# Altium schematic symbol library BM06B-GHS-TBTLFSNN.SchLib: 1 symbol
Pins are listed as number, name and electrical type; pins without a type are passive.

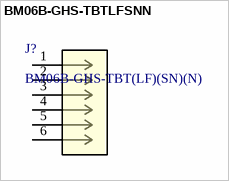
[diagram p0: symbol BM06B-GHS-TBTLFSNN]

## BM06B-GHS-TBTLFSNN
designator J?, comment BM06B-GHS-TBT(LF)(SN)(N)
Description; Manufacturer_Name: JST; Copyright: Copyright (C) 2026 Ultra Librarian. All rights reserved.; Manufacturer_Part_Number: BM06B-GHS-TBT(LF)(SN)(N); RefDes: RefDes; Type: Type
footprint CONN_BM06B-GHS-TBT_JST
pins: 1, 2, 3, 4, 5, 6